# Altium footprint library XL6009.PcbLib: 1 footprints
Each footprint in its own frame and in the unit in brackets; x right, y up, seen from the top. Pads: shape width x height; smd on the part's side, far side on the other; paste and mask are expansions set on the pad; w line width, h text height; cw(c..) or ccw(c..) is an arc to the next point about the centre after c.
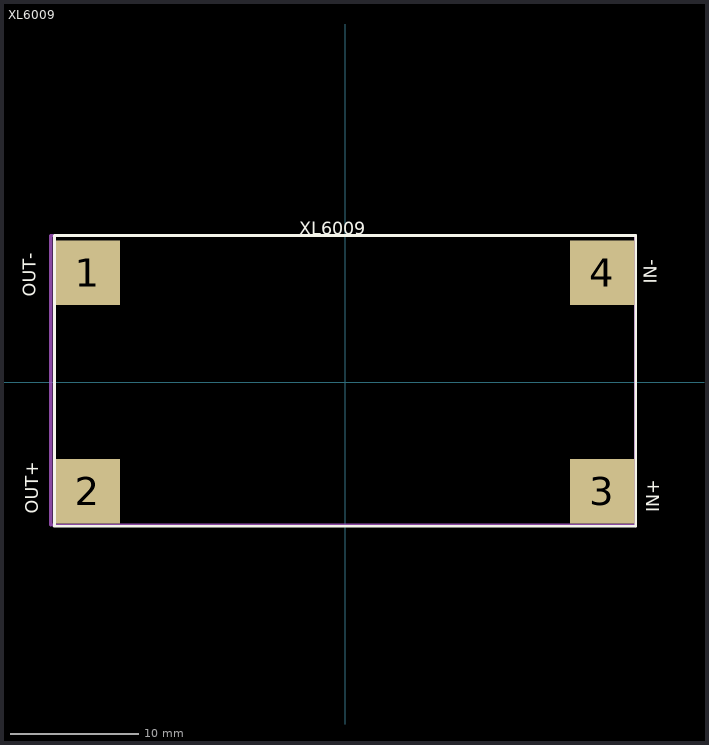
[diagram p0: the footprint, top view; thin cyan lines are the x and y axes]

## XL6009 [mm]
height 0.55
pads (4):
  rect 5x5 / inner rect 5x5 / far side rect 0x0 all layers, no hole: 1(-20,8.5) 2(-20,-8.5) 3(20,-8.5) 4(20,8.5)
Top Overlay:
  lines w0.2: -22.6,-11.2 -22.6,11.4 22.6,11.4 22.6,-11.2 -22.6,-11.2
  text "IN+" at 24.446,-10.146 h1
  text "IN-" at 24.246,7.654 h1
  text "OUT-" at -24.054,6.654 h1
  text "OUT+" at -23.854,-10.246 h1
  text "XL6009" at -3.546,11.454 h1
Top Assembly:
  lines w0.254: -22.9,-11.1 -22.9,11.4 22.6,11.4 22.6,-11.2 ; -22.746,-11.121 22.6,-11.121
  text "'.Designator'" at -0.975,-0.35 h0.7
3D body "XL6009.stp": height 12.75, standoff -5.21, extent -21.59,-10.541 21.59,10.541